# Altium schematic symbol library InductorsSymbol.SchLib: 1 symbol
Pins are listed as number, name and electrical type; pins without a type are passive.

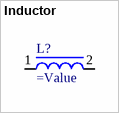
[diagram p0: symbol Inductor]

## Inductor
designator L?
Индуктивность
pins: 1, 2